# Altium footprint library FPC-24P-CAM.PcbLib: 1 footprints
Each footprint in its own frame and in the unit in brackets; x right, y up, seen from the top. Pads: shape width x height; smd on the part's side, far side on the other; paste and mask are expansions set on the pad; w line width, h text height; cw(c..) or ccw(c..) is an arc to the next point about the centre after c.
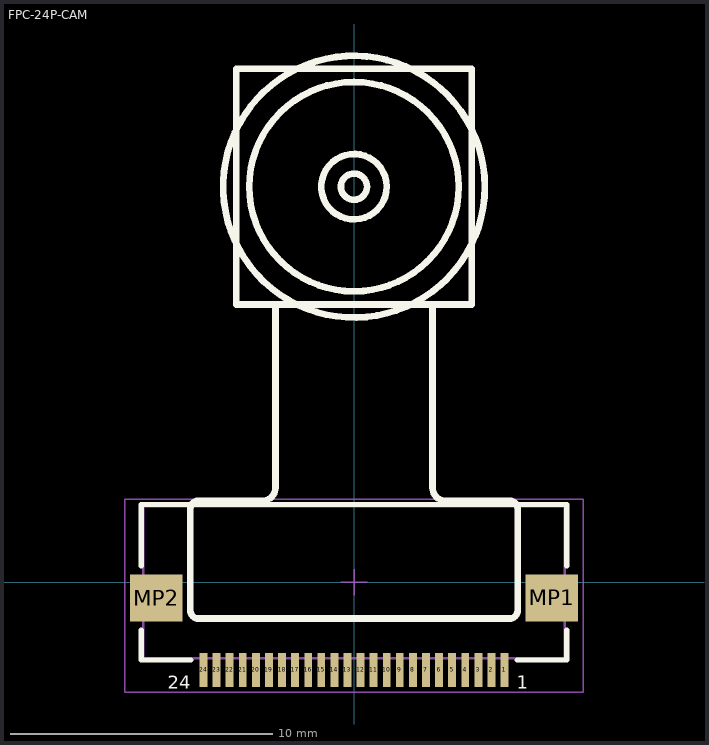
[diagram p0: the footprint, top view; thin cyan lines are the x and y axes]

## FPC-24P-CAM [mm]
pads (26):
  rect 0.3x1.3 smd: 1(5.75,-3.35) 2(5.25,-3.35) 3(4.75,-3.35) 4(4.25,-3.35) 5(3.75,-3.35) 6(3.25,-3.35) 7(2.75,-3.35) 8(2.25,-3.35) 9(1.75,-3.35) 10(1.25,-3.35) 11(0.75,-3.35) 12(0.25,-3.35) 13(-0.25,-3.35) 14(-0.75,-3.35) 15(-1.25,-3.35) 16(-1.75,-3.35) 17(-2.25,-3.35) 18(-2.75,-3.35) 19(-3.25,-3.35) 20(-3.75,-3.35) 21(-4.25,-3.35) 22(-4.75,-3.35) 23(-5.25,-3.35) 24(-5.75,-3.35)
  rect 2x1.8 smd: MP1(7.55,-0.6) MP2(-7.55,-0.6)
Top Overlay:
  circle w0.254: c0,15.113 r4
  circle w0.254: c0,15.113 r0.5
  circle w0.254: c0,15.113 r1.25
  circle w0.254: c0,15.113 r5
  lines w0.2: -8.125,-1.825 -8.125,-2.975 -6.225,-2.975 ; -8.125,0.625 -8.125,2.975 8.125,2.975 8.125,0.625 ; 6.225,-2.975 8.125,-2.975 8.125,-1.825
  lines w0.254: -3,10.596 -3,3.613 cw(c-3.5,3.613) -3.5,3.113 -5.95,3.113 ccw(c-5.95,2.813) -6.25,2.813 -6.25,-1.087 ccw(c-5.95,-1.087) -5.95,-1.387 5.95,-1.387 ccw(c5.95,-1.087) 6.25,-1.087 6.25,2.813 ccw(c5.95,2.813) 5.95,3.113 3.5,3.113 cw(c3.5,3.613) 3,3.613 3,10.596 ; -4.5,10.613 -4.5,19.613 4.5,19.613 4.5,10.613 -4.5,10.613
  text "1" at 6.223,-4.064 h0.51
  text "24" at -7.112,-4.064 h0.51
Mechanical 13:
  lines w0.1: -8.05,-2.9 -8.05,2.9 8.05,2.9 8.05,-2.9 -8.05,-2.9
Mechanical 15:
  lines w0.05: -0.5,0 0.5,0 ; 0,-0.5 0,0.5 ; -8.75,-4.2 -8.75,3.175 8.75,3.175 8.75,-4.2 -8.75,-4.2
3D body "687124149022.stp": height 2.25, standoff 0, extent -8.05,-3.6 8.05,2.9
3D body "TY-OV2_v6.step": height 6.76, standoff 1, extent -6.25,-3 6.25,19